# Altium footprint library DIP794W45P254L1969H508Q16.PcbLib: 1 footprints
Each footprint in its own frame and in the unit in brackets; x right, y up, seen from the top. Pads: shape width x height; smd on the part's side, far side on the other; paste and mask are expansions set on the pad; w line width, h text height; cw(c..) or ccw(c..) is an arc to the next point about the centre after c.
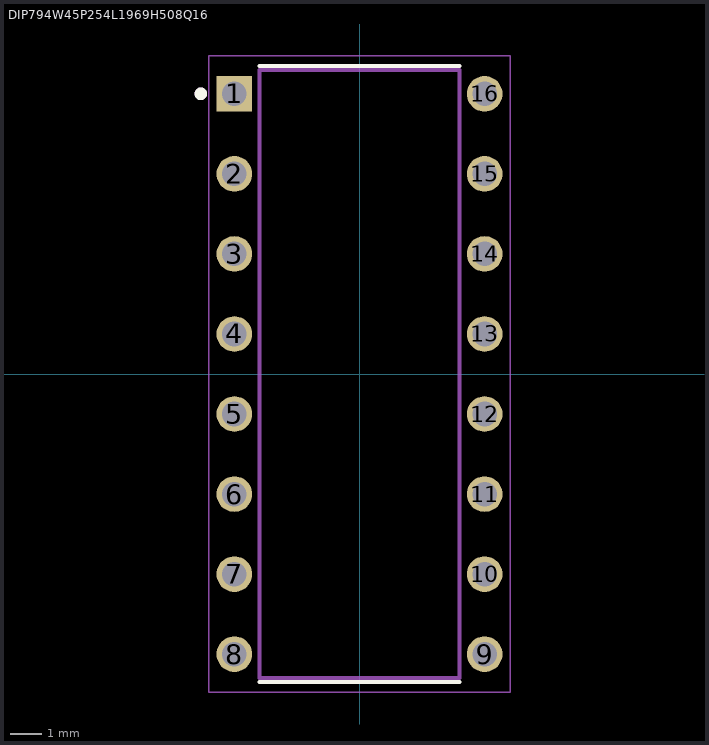
[diagram p0: the footprint, top view; thin cyan lines are the x and y axes]

## DIP794W45P254L1969H508Q16 [mm]
pads (16):
  rect 1.13x1.13 hole 0.78: 1(-3.97,8.89)
  round 1.13 hole 0.78: 2(-3.97,6.35) 3(-3.97,3.81) 4(-3.97,1.27) 5(-3.97,-1.27) 6(-3.97,-3.81) 7(-3.97,-6.35) 8(-3.97,-8.89) 9(3.97,-8.89) 10(3.97,-6.35) 11(3.97,-3.81) 12(3.97,-1.27) 13(3.97,1.27) 14(3.97,3.81) 15(3.97,6.35) 16(3.97,8.89)
Top Overlay:
  circle w0.2: c-5.035,8.89 r0.1
  lines w0.127: -3.175,-9.775 3.175,-9.775 ; -3.175,9.775 3.175,9.775
Mechanical 13:
  circle w0.2: c-5.035,8.89 r0.1
  lines w0.127: -3.175,-9.653 -3.175,9.653 3.175,9.653 3.175,-9.653 -3.175,-9.653
Mechanical 15:
  lines w0.05: -4.785,-10.095 -4.785,10.095 4.785,10.095 4.785,-10.095 -4.785,-10.095